# EAGLE library part LIS331DLH (library rgb_cube)
LIS331DLH - Digital 3-axis accelerometer The LIS331DLH is an ultra low-power high performance three axes linear accelerometer belonging to the ?nano? family, with digital I2C/SPI serial interface standard output. The LIS331DLH has dynamically user selectable full scales of ±2g/±4g/±8g and it is capable of measuring accelerations with output data rates from 0.5 Hz to 1 kHz. It is guaranteed to operate over an extended temperature range from -40 °C to +85 °C. LIS331DLH Datasheet <http://www.st.com/internet/com/TECHNICAL_RESOURCES/TECHNICAL_LITERATURE/DATASHEET/CD00213470.pdf>
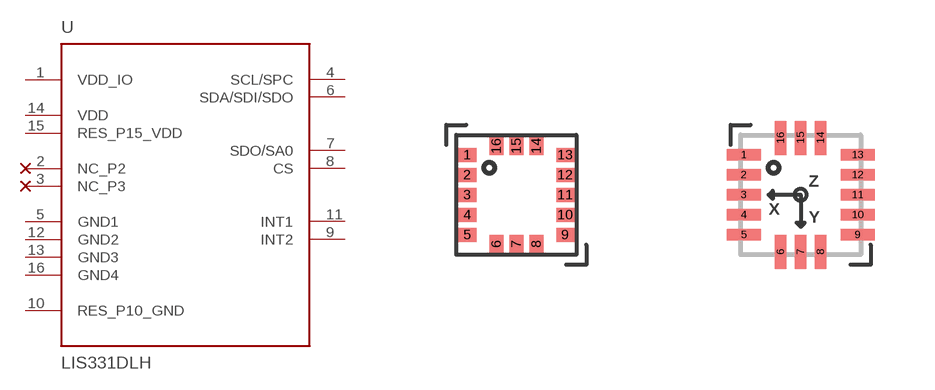
[diagram p11: symbol with the pads of LGA-16-3PX5P; footprints LGA-16-3PX5P, LIS331DLH-MAN]

Designator prefix U

## LIS331DLH  [LGA-16-3PX5P]
1  VDD_IO
2  NC_P2  nc
3  NC_P3  nc
4  SCL/SPC  in
5  GND1
6  SDA/SDI/SDO
7  SDO/SA0
8  CS  in
9  INT2  out
10  RES_P10_GND  in
11  INT1  out
12  GND2
13  GND3
14  VDD
15  RES_P15_VDD
16  GND4

## LIS331DLH-LL  [LIS331DLH-MAN]
Pads as for LGA-16-3PX5P

## Footprint LGA-16-3PX5P (pad centres in mm)
LGA-16 3x3 mm package (3x5 pin layout) This layout follows the ST Micro design guidelines for LGA packages found at: ST Micro LGA surface mounting guidelines <http://www.st.com/internet/com/TECHNICAL_RESOURCES/TECHNICAL_LITERATURE/TECHNICAL_NOTE/CD00134799.pdf>
smd 0.45 x 0.35: 1 -1.225,1; 2 -1.225,0.5; 3 -1.225,0; 4 -1.225,-0.5; 5 -1.225,-1; 9 1.225,-1; 10 1.225,-0.5; 11 1.225,0; 12 1.225,0.5; 13 1.225,1
smd 0.35 x 0.45: 6 -0.5,-1.225; 7 0,-1.225; 8 0.5,-1.225; 14 0.5,1.225; 15 0,1.225; 16 -0.5,1.225

## Footprint LIS331DLH-MAN (pad centres in mm)
ST LIS331DLH Accelerometer package Adapted based on: http://www.st.com/stonline/products/literature/tn/12707.pdf
smd 0.85 x 0.285: 1 -1.425,1; 2 -1.425,0.5; 3 -1.425,0; 4 -1.425,-0.5; 5 -1.425,-1; 9 1.425,-1; 10 1.425,-0.5; 11 1.425,0; 12 1.425,0.5; 13 1.425,1
smd 0.285 x 0.85: 6 -0.5,-1.425; 7 0,-1.425; 8 0.5,-1.425; 14 0.5,1.425; 15 0,1.425; 16 -0.5,1.425